# Altium schematic symbol library ESD_PROT.SchLib: 1 symbol
Pins are listed as number, name and electrical type; pins without a type are passive.

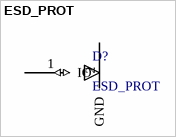
[diagram p0: symbol ESD_PROT]

## ESD_PROT
designator D?
ESD protection symbol
pins: 1 IO (io), 2 GND (power)